# Altium schematic symbol library STM32_Forest_S1.SchLib: 1 symbol
Pins are listed as number, name and electrical type; pins without a type are passive.

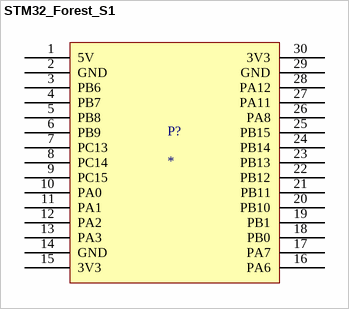
[diagram p0: symbol STM32_Forest_S1]

## STM32_Forest_S1
designator P?
footprint STM32_Forest_S1
pins: 1 5V, 2 GND, 3 PB6, 4 PB7, 5 PB8, 6 PB9, 7 PC13, 8 PC14, 9 PC15, 10 PA0, 11 PA1, 12 PA2, 13 PA3, 14 GND, 15 3V3, 16 PA6, 17 PA7, 18 PB0, 19 PB1, 20 PB10, 21 PB11, 22 PB12, 23 PB13, 24 PB14, 25 PB15, 26 PA8, 27 PA11, 28 PA12, 29 GND, 30 3V3